# Altium footprint library 协处理器.PcbLib: 17 footprints (part 1 of 2)
Each footprint in its own frame and in the unit in brackets; x right, y up, seen from the top. Pads: shape width x height; smd on the part's side, far side on the other; paste and mask are expansions set on the pad; w line width, h text height; cw(c..) or ccw(c..) is an arc to the next point about the centre after c.
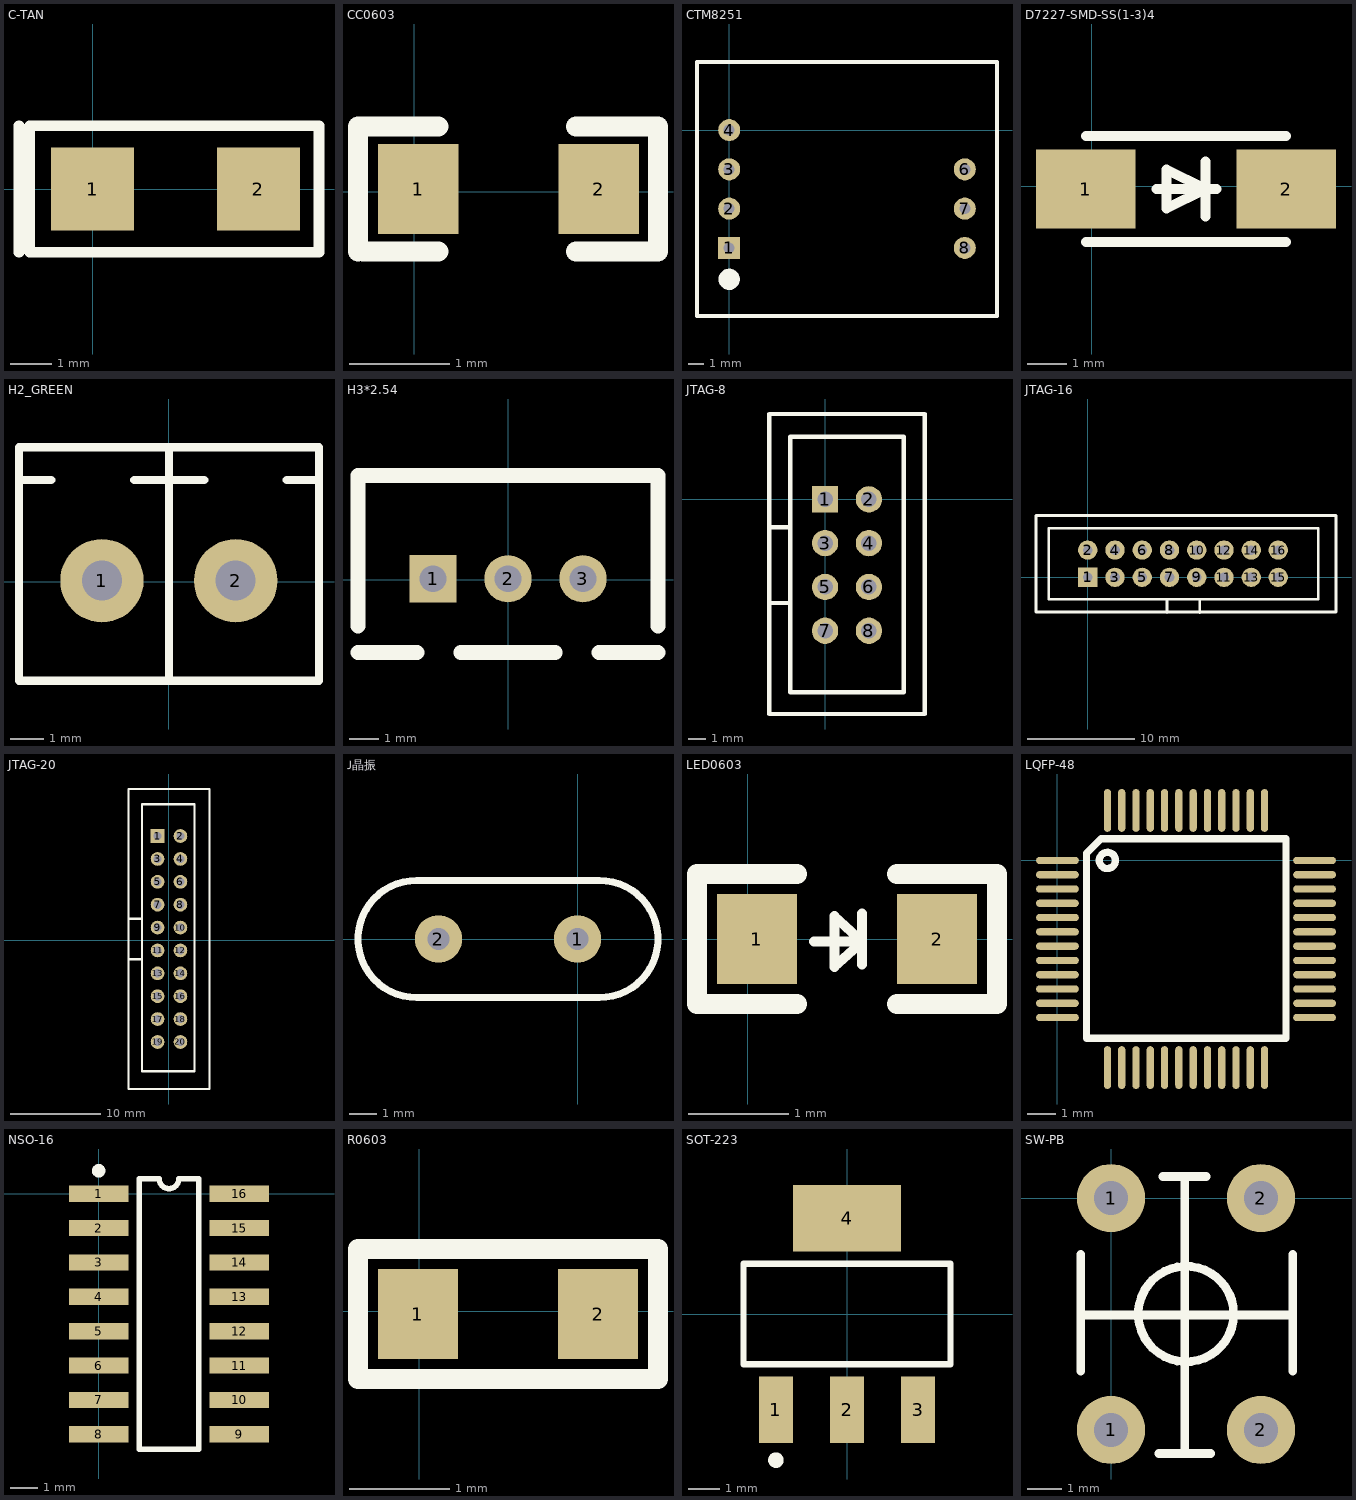
[diagram p0: the footprints below, top view; thin cyan lines are the x and y axes]

## C-TAN [mm]
height 5.33
pads (2):
  rect 2x2 smd: 1(0,0) 2(4,0)
Top Overlay:
  lines w0.254: -1.778,-1.524 -1.778,1.524 ; -1.524,-1.524 5.461,-1.524 5.461,1.524 -1.524,1.524 -1.524,-1.524

## CC0603 [mm]
height 5.33
pads (2):
  rect 0.8x0.9 smd: 1(0.04,0.025) 2(1.84,0.025)
Top Overlay:
  lines w0.2: -0.56,-0.6 -0.56,0.65 0.24,0.65 ; -0.508,-0.6 0.24,-0.6 ; 1.613,-0.6 2.413,-0.6 ; 1.613,0.65 2.413,0.65 ; 2.43,-0.6 2.43,0.65

## CTM8251 [mil]
height 209.84
pads (7):
  rect 56x56 hole 28: 1(0,-300)
  round 56 hole 28: 2(0,-200) 3(0,-100) 4(0,0) 6(600,-100) 7(600,-200) 8(600,-300)
Top Overlay:
  circle w30: c0,-380 r12
  lines w10: -82,-473 -82,173 682,173 682,-473 -82,-473

## D7227-SMD-SS(1-3)4 [mm]
height 5.33
pads (2):
  rect 2.54x2 smd: 1(-0.149,-0.076) 2(4.951,-0.076)
Top Overlay:
  lines w0.254: -0.149,-1.426 4.951,-1.426 ; -0.149,1.274 4.951,1.274 ; 1.651,-0.076 3.175,-0.076 ; 2.901,-0.776 2.901,0.624 ; 1.901,-0.576 2.901,-0.076 1.901,0.424 1.901,-0.576

## H2_GREEN [mm]
pads (2):
  round 2.5 hole 1.2: 1(-2.007,0.028) 2(2.007,0.028)
Top Overlay:
  lines w0.254: -4.496,3.048 -3.531,3.048 ; -1.041,3.048 1.067,3.048 ; 0.004,-2.972 0.004,4.028 ; 3.539,3.048 4.504,3.048 ; -4.496,-2.972 -4.496,4.028 4.504,4.028 4.504,-2.972 -4.496,-2.972

## H3*2.54 [mm]
height 5.33
pads (3):
  rect 1.6x1.6 hole 0.9: 1(-2.54,0.025)
  round 1.6 hole 0.9: 2(0,0.025) 3(2.54,0.025)
Top Overlay:
  lines w0.5: -5.08,-2.475 -3.08,-2.475 ; -5.08,-1.575 -5.08,3.525 5.08,3.525 5.08,-1.575 ; -1.6,-2.475 1.6,-2.475 ; 3.08,-2.475 5.08,-2.475
3D body: height 0.5, standoff 0, extent -4.851,-2.235 4.826,3.327
3D body: height 7, standoff 0, extent -5.309,-2.692 -4.851,3.785
3D body: height 7, standoff 0, extent -4.851,3.327 4.826,3.785
3D body: height 7, standoff 0, extent 4.826,-2.692 5.283,3.785
3D body: height 7, standoff 0, extent -5.309,-2.692 -2.921,-2.235
3D body: height 7, standoff 0, extent 2.908,-2.692 5.283,-2.235
3D body: height 3, standoff 0, extent -2.921,-2.692 -1.778,-2.235
3D body: height 7, standoff 0, extent -1.778,-2.692 1.765,-2.235
3D body: height 3, standoff 0, extent 1.765,-2.692 2.908,-2.235
3D body: height -0.5, standoff -1.5, extent -3.035,-0.472 -2.04,0.523
3D body: height 7, standoff 0, extent -2.921,-0.356 -2.159,0.406
3D body: height -0.5, standoff -1, extent -3.036,-0.473 -2.04,0.524
3D body: height -0.5, standoff -1.5, extent -0.495,-0.472 0.5,0.523
3D body: height 7, standoff 0, extent -0.381,-0.356 0.381,0.406
3D body: height -0.5, standoff -1, extent -0.496,-0.473 0.5,0.524
3D body: height -0.5, standoff -1.5, extent 2.045,-0.472 3.04,0.523
3D body: height 7, standoff 0, extent 2.159,-0.356 2.921,0.406
3D body: height -0.5, standoff -1, extent 2.044,-0.473 3.04,0.524

## JTAG-8 [mil]
height 209.84
pads (8):
  rect 60x60 hole 35.43: 1(0,0)
  round 60 hole 35.43: 2(100,0) 3(0,-100) 4(100,-100) 5(0,-200) 6(100,-200) 7(0,-300) 8(100,-300)
Top Overlay:
  lines w10: -127.17,-236.61 -79.92,-236.61 ; -127.17,-63.39 -79.92,-63.39 ; -127.17,-490 227.16,-490 227.16,194.76 -127.17,194.76 -127.17,-490 ; -79.92,-440 179.92,-440 179.92,142.52 -79.92,142.52 -79.92,-440

## JTAG-16 [mm]
pads (16):
  rect 1.8x1.8 hole 0.9: 1(0,0)
  round 1.8 hole 0.9: 2(0,2.54) 3(2.54,0) 4(2.54,2.54) 5(5.08,0) 6(5.08,2.54) 7(7.62,0) 8(7.62,2.54) 9(10.16,0) 10(10.16,2.54) 11(12.7,0) 12(12.7,2.54) 13(15.24,0) 14(15.24,2.54) 15(17.755,0) 16(17.755,2.54)
Top Overlay:
  lines w0.254: 7.393,-3.283 7.393,-2.083 ; 10.441,-3.283 10.441,-2.083 ; -4.82,-3.23 -4.82,5.77 23.141,5.77 23.141,-3.23 -4.82,-3.23 ; -3.62,-2.03 -3.62,4.57 21.49,4.57 21.49,-2.03 -3.62,-2.03

## JTAG-20 [mil]
height 209.84
pads (20):
  rect 60x60 hole 35.83: 1(-49,454.5)
  round 60 hole 35.83: 2(51,454.5) 3(-49,354.5) 4(51,354.5) 5(-49,254.5) 6(51,254.5) 7(-49,154.5) 8(51,154.5) 9(-49,54.5) 10(51,54.5) 11(-49,-45.5) 12(51,-45.5) 13(-49,-145.5) 14(51,-145.5) 15(-49,-245.5) 16(51,-245.5) 17(-49,-345.5) 18(51,-345.5) 19(-49,-445.5) 20(51,-445.5)
Top Overlay:
  lines w10: -176.16,-84.08 -117.11,-84.08 ; -176.16,93.09 -117.11,93.09 ; -117.11,-84.08 -117.11,-572.89 -116.78,-572.89 -116.67,-573 112,-573 112,594 -117.11,594 -117.11,93.09 ; -117.11,-84.08 -117.11,93.09 ; -176.16,-651.01 178.17,-651.01 178.17,660.02 -176.16,660.02 -176.16,-651.01
3D body: height 275.59, standoff 157.48, extent -44.5,-658.49 43.5,-640.49
3D body: height 19.68, standoff 0, extent -168,-640.5 168,650.5
3D body: height 275.59, standoff 0, extent -185.5,650.5 -44,668.51
3D body: height 275.59, standoff 0, extent -186,98.5 -168,668.51
3D body: height 118.11, standoff 0, extent -186,-89.5 -167.5,98.5
3D body: height 275.59, standoff 0, extent 44,650.5 185.5,668.5
3D body: height 275.59, standoff 0, extent 168,-658.5 185.5,668.5
3D body: height 275.59, standoff 157.48, extent -44,650.5 44,668.5
3D body: height 275.59, standoff 0, extent 43.5,-658.5 185,-640.49
3D body: height 275.59, standoff 0, extent -186,-658.5 -167.5,-89.49
3D body: height 275.59, standoff 0, extent -186,-658.49 -44.5,-640.49
3D body: height -19.69, standoff -59.06, extent -68.47,434.91 -29.31,474.11
3D body: height 275.59, standoff 0, extent -64,439.51 -34,469.51
3D body: height -19.69, standoff -39.37, extent -68.52,434.87 -29.31,474.16
3D body: height -19.69, standoff -39.37, extent 31.48,434.87 70.69,474.16
3D body: height 275.59, standoff 0, extent 36,439.51 66,469.51
3D body: height -19.69, standoff -59.06, extent 31.53,434.91 70.69,474.11
3D body: height -19.69, standoff -39.37, extent -68.52,334.87 -29.31,374.16
3D body: height 275.59, standoff 0, extent -64,339.51 -34,369.51
3D body: height -19.69, standoff -59.06, extent -68.47,334.91 -29.31,374.11
3D body: height -19.69, standoff -39.37, extent 31.48,334.87 70.69,374.16
3D body: height 275.59, standoff 0, extent 36,339.51 66,369.51
3D body: height -19.69, standoff -59.06, extent 31.53,334.91 70.69,374.11
3D body: height -19.69, standoff -39.37, extent -68.52,234.87 -29.31,274.16
3D body: height 275.59, standoff 0, extent -64,239.51 -34,269.51
3D body: height -19.69, standoff -59.06, extent -68.47,234.91 -29.31,274.11
3D body: height -19.69, standoff -39.37, extent 31.48,234.87 70.69,274.16
3D body: height 275.59, standoff 0, extent 36,239.51 66,269.51
3D body: height -19.69, standoff -59.06, extent 31.53,234.91 70.69,274.11
3D body: height -19.69, standoff -39.37, extent -68.52,134.87 -29.31,174.16
3D body: height 275.59, standoff 0, extent -64,139.51 -34,169.51
3D body: height -19.69, standoff -59.06, extent -68.47,134.91 -29.31,174.11
3D body: height -19.69, standoff -39.37, extent 31.48,134.87 70.69,174.16
3D body: height 275.59, standoff 0, extent 36,139.51 66,169.51
3D body: height -19.69, standoff -59.06, extent 31.53,134.91 70.69,174.11
3D body: height -19.69, standoff -39.37, extent -68.52,34.87 -29.31,74.16
3D body: height 275.59, standoff 0, extent -64,39.51 -34,69.51
3D body: height -19.69, standoff -59.06, extent -68.47,34.91 -29.31,74.11
3D body: height -19.69, standoff -39.37, extent 31.48,34.87 70.69,74.16
3D body: height 275.59, standoff 0, extent 36,39.51 66,69.51
3D body: height -19.69, standoff -59.06, extent 31.53,34.91 70.69,74.11
3D body: height -19.69, standoff -39.37, extent -68.52,-65.13 -29.31,-25.84
3D body: height 275.59, standoff 0, extent -64,-60.49 -34,-30.49
3D body: height -19.69, standoff -59.06, extent -68.47,-65.09 -29.31,-25.89
3D body: height -19.69, standoff -39.37, extent 31.48,-65.13 70.69,-25.84
3D body: height 275.59, standoff 0, extent 36,-60.49 66,-30.49
3D body: height -19.69, standoff -59.06, extent 31.53,-65.09 70.69,-25.89
3D body: height -19.69, standoff -39.37, extent -68.52,-165.13 -29.31,-125.84
3D body: height 275.59, standoff 0, extent -64,-160.49 -34,-130.49
3D body: height -19.69, standoff -59.06, extent -68.47,-165.09 -29.31,-125.89
3D body: height -19.69, standoff -39.37, extent 31.48,-165.13 70.69,-125.84
3D body: height 275.59, standoff 0, extent 36,-160.49 66,-130.49
3D body: height -19.69, standoff -59.06, extent 31.53,-165.09 70.69,-125.89
3D body: height -19.69, standoff -39.37, extent -68.52,-265.13 -29.31,-225.84
3D body: height 275.59, standoff 0, extent -64,-260.49 -34,-230.49
3D body: height -19.69, standoff -59.06, extent -68.47,-265.09 -29.31,-225.89
3D body: height -19.69, standoff -39.37, extent 31.48,-265.13 70.69,-225.84
3D body: height 275.59, standoff 0, extent 36,-260.49 66,-230.49
3D body: height -19.69, standoff -59.06, extent 31.53,-265.09 70.69,-225.89
3D body: height -19.69, standoff -39.37, extent -68.52,-365.13 -29.31,-325.84
3D body: height 275.59, standoff 0, extent -64,-360.49 -34,-330.49
3D body: height -19.69, standoff -59.06, extent -68.47,-365.09 -29.31,-325.89
3D body: height -19.69, standoff -39.37, extent 31.48,-365.13 70.69,-325.84
3D body: height 275.59, standoff 0, extent 36,-360.49 66,-330.49
3D body: height -19.69, standoff -59.06, extent 31.53,-365.09 70.69,-325.89
3D body: height -19.69, standoff -39.37, extent -68.52,-465.13 -29.31,-425.84
3D body: height 275.59, standoff 0, extent -64,-460.49 -34,-430.49
3D body: height -19.69, standoff -59.06, extent -68.47,-465.09 -29.31,-425.89
3D body: height -19.69, standoff -39.37, extent 31.48,-465.13 70.69,-425.84
3D body: height 275.59, standoff 0, extent 36,-460.49 66,-430.49
3D body: height -19.69, standoff -59.06, extent 31.53,-465.09 70.69,-425.89

## J晶振 [mm]
height 5.33
pads (2):
  round 1.7 hole 0.8: 1(0,0) 2(-5.004,0)
Top Overlay:
  lines w0.254: -5.791,-2.108 cw(c-5.791,0) -5.791,2.108 0.787,2.108 cw(c0.787,0) 0.787,-2.108 -5.791,-2.108

## LED0603 [mm]
height 5.33
pads (2):
  rect 0.8x0.9 smd: 1(0.091,0) 2(1.891,0)
Top Overlay:
  lines w0.1: 1.143,-0.254 1.143,0.254 ; 1.143,0 1.143,-0.025 ; 1.143,-0.025 0.864,-0.279 0.864,0.229 1.143,-0.025 ; 1.143,-0.025 0.66,-0.025 1.143,-0.025
  lines w0.2: 0.491,-0.65 -0.509,-0.65 -0.509,0.65 0.491,0.65 ; 1.491,-0.65 2.491,-0.65 2.491,0.65 1.491,0.65

## LQFP-48 [mm]
height 5.33
pads (48):
  oval 1.5x0.254 smd: 1(0,0) 2(0,-0.5) 3(0,-1) 4(0,-1.5) 5(0,-2) 6(0,-2.5) 7(0,-3) 8(0,-3.5) 9(0,-4) 10(0,-4.5) 11(0,-5) 12(0,-5.5) 25(9,-5.5) 26(9,-5) 27(9,-4.5) 28(9,-4) 29(9,-3.5) 30(9,-3) 31(9,-2.5) 32(9,-2) 33(9,-1.5) 34(9,-1) 35(9,-0.5) 36(9,0)
  oval 0.254x1.5 smd: 13(1.75,-7.25) 14(2.25,-7.25) 15(2.75,-7.25) 16(3.25,-7.25) 17(3.75,-7.25) 18(4.25,-7.25) 19(4.75,-7.25) 20(5.25,-7.25) 21(5.75,-7.25) 22(6.25,-7.25) 23(6.75,-7.25) 24(7.25,-7.25) 37(7.25,1.75) 38(6.75,1.75) 39(6.25,1.75) 40(5.75,1.75) 41(5.25,1.75) 42(4.75,1.75) 43(4.25,1.75) 44(3.75,1.75) 45(3.25,1.75) 46(2.75,1.75) 47(2.25,1.75) 48(1.75,1.75)
Top Overlay:
  circle w0.254: c1.748,0 r0.284
  lines w0.254: 1.016,-6.223 1.016,0.254 1.524,0.762 8.001,0.762 8.001,-6.223 1.016,-6.223
3D body: height 1.5, standoff 0, extent 0,-7.239 9,1.761

## NSO-16 [mm]
height 5.33
pads (16):
  rect 2.2x0.6 smd: 1(0,0) 2(0,-1.27) 3(0,-2.54) 4(0,-3.81) 5(0,-5.08) 6(0,-6.35) 7(0,-7.62) 8(0,-8.89) 9(5.2,-8.89) 10(5.2,-7.62) 11(5.2,-6.35) 12(5.2,-5.08) 13(5.2,-3.81) 14(5.2,-2.54) 15(5.2,-1.27) 16(5.2,0)
Top Overlay:
  circle w0.25: c0,0.85 r0.125
  lines w0.2: 1.5,-9.445 1.5,0.555 2.233,0.555 ccw(c2.6,0.555) 2.967,0.555 3.7,0.555 3.7,-9.445 1.5,-9.445

## R0603 [mm]
height 5.33
pads (2):
  rect 0.8x0.9 smd: 1(-0.011,-0.025) 2(1.789,-0.025)
Top Overlay:
  lines w0.2: -0.611,-0.675 2.389,-0.675 2.389,0.625 -0.611,0.625 -0.611,-0.675

## SOT-223 [mm] "SOT-223/SC-73; 4 Leads; Body 6.7 x 7.3 mm, inc. leads (LxW max)"
height 1.8
pads (4):
  rect 1.1x2.15 smd: 1(-2.3,-3.1) 2(0,-3.1) 3(2.3,-3.1)
  rect 3.5x2.15 smd: 4(0,3.1)
Top Overlay:
  circle w0.25: c-2.3,-4.725 r0.125
  lines w0.2: -3.35,-1.625 3.35,-1.625 3.35,1.625 -3.35,1.625 -3.35,-1.625

## SW-PB [mm]
height 5.33
pads (4):
  round 2 hole 1: 1(0,-6.8) 1(0,0) 2(4.4,-6.8) 2(4.4,0)
Top Overlay:
  circle w0.254: c2.2,-3.4 r1.4
  lines w0.254: -0.889,-5.08 -0.889,-1.651 ; -0.889,-3.429 5.334,-3.429 ; 1.397,-7.493 2.921,-7.493 ; 1.524,0.635 2.794,0.635 ; 2.159,-7.493 2.159,0.635 ; 5.334,-5.08 5.334,-1.651